# Altium schematic symbol library LT3489.SchLib: 1 symbol
Pins are listed as number, name and electrical type; pins without a type are passive.

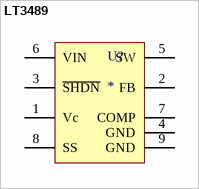
[diagram p0: symbol LT3489]

## LT3489
designator U?
Part No.: LT3489; Vendor: Linear Technology; Manufacturer: Linear Technology; Price Est.: $2.79
footprint MSOP-8 (MS8E) (MS8E MSOP-8 Linear Technology 8-Lead PLASTIC MSOP Exposed Ground (LT3010))
pins: 1 Vc, 2 FB, 3 ~{SHDN}, 4 GND, 5 SW, 6 VIN, 7 COMP, 8 SS, 9 GND